# Altium footprint library ___client_specific_DSG.PcbLib: 4 footprints
Each footprint in its own frame and in the unit in brackets; x right, y up, seen from the top. Pads: shape width x height; smd on the part's side, far side on the other; paste and mask are expansions set on the pad; w line width, h text height; cw(c..) or ccw(c..) is an arc to the next point about the centre after c.
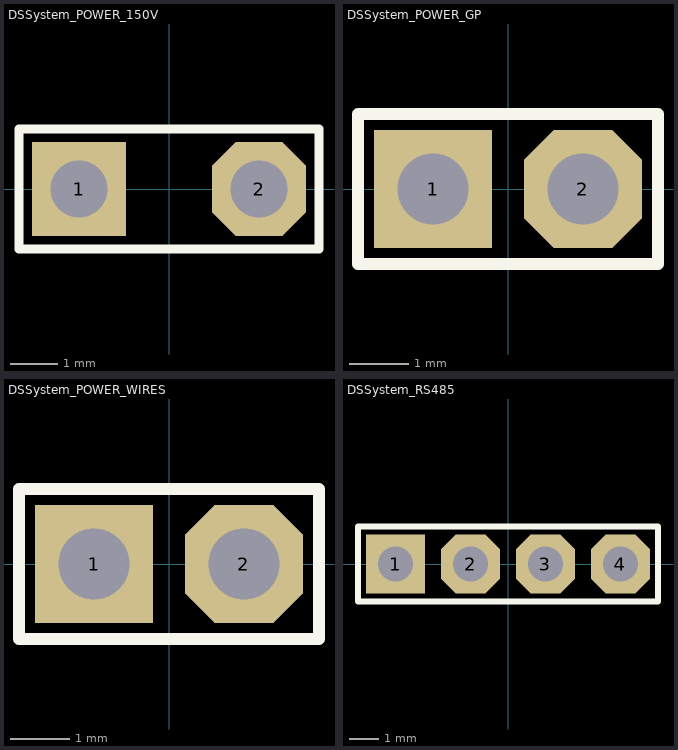
[diagram p0: the footprints below, top view; thin cyan lines are the x and y axes]

## DSSystem_POWER_150V [mm] "DSSystem POWER Wires"
pads (2):
  rect 2x2 hole 1.2: 1(-1.905,0)
  oct 2x2 hole 1.2: 2(1.905,0)
Top Overlay:
  lines w0.2: -3.175,-1.27 -3.175,1.27 3.175,1.27 3.175,-1.27 -3.175,-1.27

## DSSystem_POWER_GP [mm] "DSSystem POWER Wires"
pads (2):
  rect 2x2 hole 1.2: 1(-1.27,0)
  oct 2x2 hole 1.2: 2(1.27,0)
Top Overlay:
  lines w0.2: -2.54,-1.27 -2.54,1.27 2.54,1.27 2.54,-1.27 -2.54,-1.27
3D body "Samtec-TSW-102-23-F-S.STEP": height 8.38, standoff -2.92, extent -2.54,-1.27 2.54,1.27

## DSSystem_POWER_WIRES [mm] "DSSystem POWER Wires"
pads (2):
  rect 2x2 hole 1.2: 1(-1.27,0)
  oct 2x2 hole 1.2: 2(1.27,0)
Top Overlay:
  lines w0.2: -2.54,-1.27 -2.54,1.27 2.54,1.27 2.54,-1.27 -2.54,-1.27

## DSSystem_RS485 [mm] "DSSystem RS485 Wires"
pads (4):
  rect 2x2 hole 1.2: 1(-3.81,0)
  oct 2x2 hole 1.2: 2(-1.27,0) 3(1.27,0) 4(3.81,0)
Top Overlay:
  lines w0.2: -5.08,-1.27 5.08,-1.27 5.08,1.27 -5.08,1.27 -5.08,-1.27